# EAGLE library part TPS77601_D_8 (library TexasLDOREG)
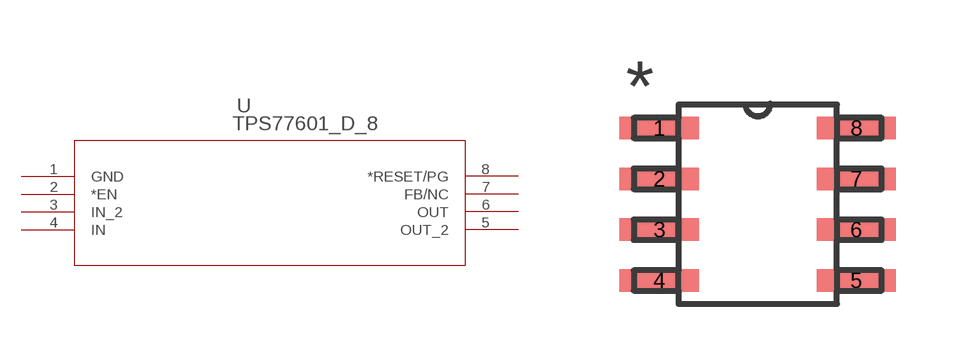
[diagram p1: symbol with the pads of D8; footprint D8]

Designator prefix U

## TPS77601_D_8 (DATASHEETURL: http://www.ti.com/lit/gpn/TPS77601; DESCRIPTION: Single Output LDO, 500mA, Adj.(1.2 to 5.5V), Fast Transient Response, Power Good (PG) Output; FAMILY_NAME: SINGLE CHANNEL LDO; GENERIC_PART_NUMBER: TPS77601; INDUSTRY_STD_PKG_TYPE: SOIC; MANUFACTURER: Texas Instruments; MANUFACTURER_PART_NUMBER: tps77601_d_8; PACKAGE_DESIGNATOR: D; PIN_COUNT: 8; VENDOR: Texas Instruments)  [D8]
1  GND  pwr
2  *EN  in
3  IN_2  in
4  IN  in
5  OUT_2  out
6  OUT  out
7  FB/NC
8  *RESET/PG

## Footprint D8 (pad centres in mm)
smd 1.981 x 0.559: 1 -2.464,1.905; 2 -2.464,0.635; 3 -2.464,-0.635; 4 -2.464,-1.905; 5 2.464,-1.905; 6 2.464,-0.635; 7 2.464,0.635; 8 2.464,1.905